# EAGLE library part MAX4311 (library jason_eagle6)
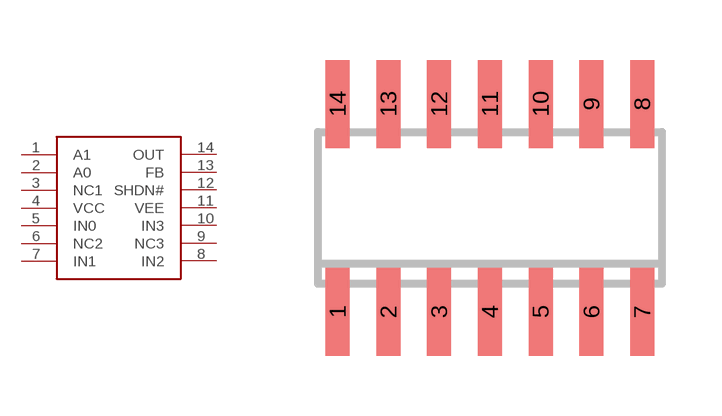
[diagram p5: symbol with the pads of SO14; footprint SO14]

Designator prefix -

## MAX4311SO14  [SO14]
1  A1
2  A0
3  NC1
4  VCC
5  IN0
6  NC2
7  IN1
8  IN2
9  NC3
10  IN3
11  VEE
12  SHDN#
13  FB
14  OUT

## Footprint SO14 (pad centres in mm)
Small Outline Package 14
smd 0.6 x 2.2: 1 -3.81,-2.6; 2 -2.54,-2.6; 3 -1.27,-2.6; 4 0,-2.6; 5 1.27,-2.6; 6 2.54,-2.6; 7 3.81,-2.6; 8 3.81,2.6; 9 2.54,2.6; 10 1.27,2.6; 11 0,2.6; 12 -1.27,2.6; 13 -2.54,2.6; 14 -3.81,2.6